# EAGLE library part MCP2551 (library den)
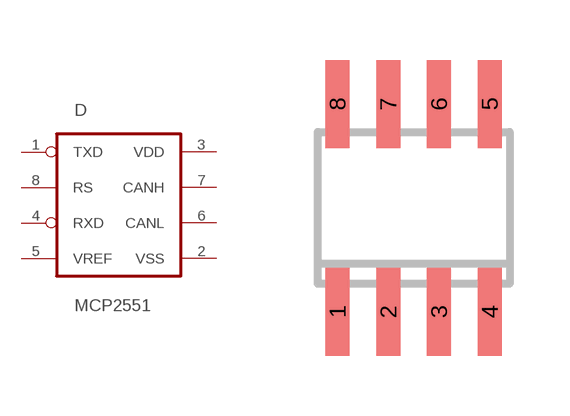
[diagram p24: symbol with the pads of SO-08; footprint SO-08]

Designator prefix D

## MCP2551  [SO-08]
1  TXD  in
2  VSS  pas
3  VDD  pas
4  RXD  out
5  VREF  pas
6  CANL  pas
7  CANH  pas
8  RS

## Footprint SO-08 (pad centres in mm)
Small Outline Narrow Plastic Gull Wing 150-mil body, package type SN
smd 0.6 x 2.2: 1 -1.905,-2.6; 2 -0.635,-2.6; 3 0.635,-2.6; 4 1.905,-2.6; 5 1.905,2.6; 6 0.635,2.6; 7 -0.635,2.6; 8 -1.905,2.6